# EAGLE library part 429427320911 (library Wurth_Elektronik_Electromechanic_Switch_rev17b)
10x10 mm washable THT right angled arrow type Pitch 5.08 mm WS-ROTU <http://katalog.we-online.de/media/images/v2/Family_WS_RAT_10x10_THT_42942732091x_pf2.jpg> Details see: http://katalog.we-online.de/en/em/ROTU_10X10_WASHABLE_THT_RIGHT_ANGLED_ARROW_TYPE_PITCH_5_08 2015 (C) Würth Elektronik
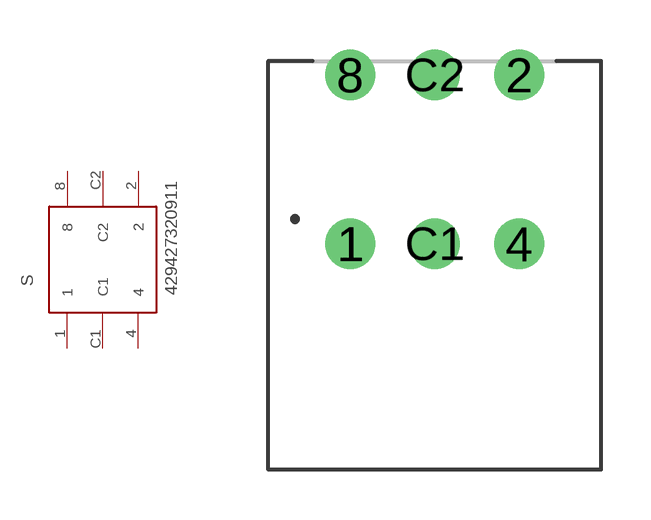
[diagram p108: symbol with the pads of 429427320911; footprint 429427320911]

Designator prefix S

## 429427320911  [429427320911]
1  1  pas
2  2  pas
4  4  pas
8  8  pas
C1  C1  pas
C2  C2  pas

## Footprint 429427320911 (pad centres in mm)
WS-RAT, 10*10mm Rotary Switch, right angle type, THT, 10 position, 5,08mm, 6 pins, round Arrow type, ivory, complement code
drill 1: 1 -2.54,-2.54; 2 2.54,2.54; 4 2.54,-2.54; 8 -2.54,2.54; C1 0,-2.54; C2 0,2.54